# Altium integrated library CD4041.IntLib: 1 symbol
Pins are listed as number, name and electrical type; pins without a type are passive.

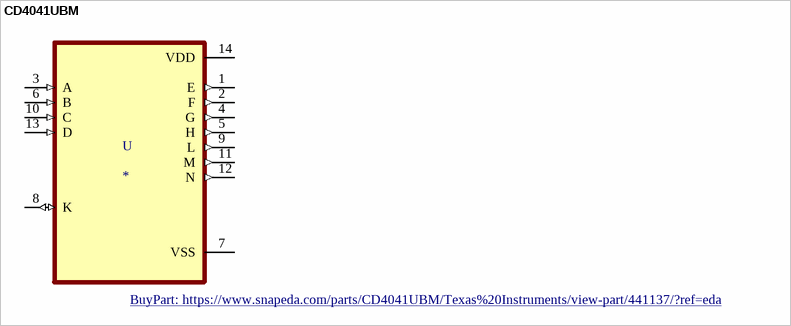
[diagram p0: symbol CD4041UBM]

## CD4041UBM
designator U
CMOS quad true/complement buffer 14-SOIC -55 to 125; MP: CD4041UBM; MF: Texas Instruments; DigiKey-Purchase-URL: https://snapeda.com/shop?store=DigiKey&id=441137; SnapEDA_Link: https://www.snapeda.com/parts/CD4041UBM/Texas%20Instruments/view-part/441137/?ref=snap; Availability: Warning; Mouser-Purchase-URL: https://snapeda.com/shop?store=Mouser&id=441137; Package: SOIC-14 Texas Instruments; Texas_Instruments-Purchase-URL: https://snapeda.com/shop?store=Texas+Instruments&id=441137; Value: *; Price: None; BuyPart: https://www.snapeda.com/parts/CD4041UBM/Texas%20Instruments/view-part/441137/?ref=eda
footprint SOIC127P600X175-14N
pins: 1 E (out), 2 F (out), 3 A (in), 4 G (out), 5 H (out), 6 B (in), 7 VSS (power), 8 K (io), 9 L (out), 10 C (in), 11 M (out), 12 N (out), 13 D (in), 14 VDD (power)